# Altium schematic symbol library MCU_UFQFPN48 - STM32G431CBU6.SchLib: 1 symbol
Pins are listed as number, name and electrical type; pins without a type are passive.

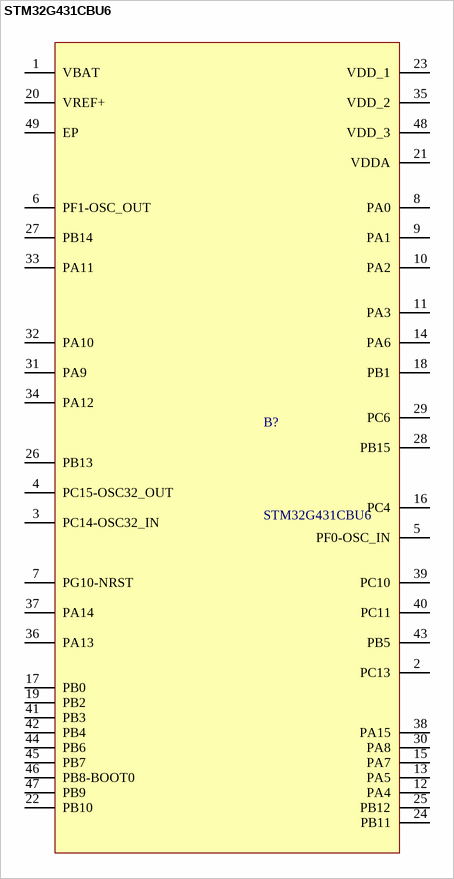
[diagram p0: symbol STM32G431CBU6]

## STM32G431CBU6
designator B?
STMICROELECTRONICS - STM32G431CBU6 - MCU, 32BIT, 170MHZ, UFQFPN-48; Geometry.Height: 0.65mm; Mouser Part Number: 511-STM32G431CBU6; Mouser Price/Stock: https://www.mouser.co.uk/ProductDetail/STMicroelectronics/STM32G431CBU6?qs=T3oQrply3y%252B0hTuSHQ7oqA%3D%3D; Manufacturer_Name: STMicroelectronics; Manufacturer_Part_Number: STM32G431CBU6; Datasheet Link: https://www.st.com/resource/en/datasheet/stm32g431cb.pdf; Supplier 1: Mouser; Supplier Part Number 1: 511-STM32G431CBU6
footprint 48-UFQFN - STMicroelectronics
pins: 1 VBAT (power), 2 PC13, 3 PC14-OSC32_IN, 4 PC15-OSC32_OUT, 5 PF0-OSC_IN, 6 PF1-OSC_OUT, 7 PG10-NRST, 8 PA0, 9 PA1, 10 PA2, 11 PA3, 12 PA4, 13 PA5, 14 PA6, 15 PA7, 16 PC4, 17 PB0, 18 PB1, 19 PB2, 20 VREF+ (power), 21 VDDA (power), 22 PB10, 23 VDD_1 (power), 24 PB11, 25 PB12, 26 PB13, 27 PB14, 28 PB15, 29 PC6, 30 PA8, 31 PA9, 32 PA10, 33 PA11, 34 PA12, 35 VDD_2 (power), 36 PA13, 37 PA14, 38 PA15, 39 PC10, 40 PC11, 41 PB3, 42 PB4, 43 PB5, 44 PB6, 45 PB7, 46 PB8-BOOT0, 47 PB9, 48 VDD_3 (power), 49 EP (power)